# EAGLE library part ADR435ARZ (library faout)
Voltage Reference
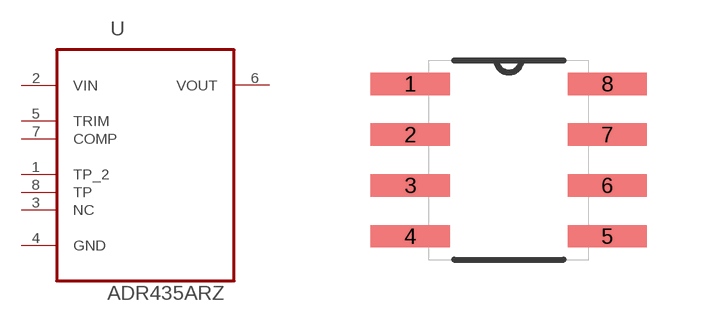
[diagram p7: symbol with the pads of SOIC127P600X175-8N; footprint SOIC127P600X175-8N]

Designator prefix U

## ADR435ARZ (MPN: ADR435ARZ; OC_FARNELL: 1438995; OC_NEWARK: 59K2824; PACKAGE: SOIC-8; SUPPLIER: Analog Devices)  [SOIC127P600X175-8N]
1  TP_2  nc
2  VIN  pwr
3  NC  nc
4  GND  pas
5  TRIM  in
6  VOUT  out
7  COMP  pas
8  TP  nc

## Footprint SOIC127P600X175-8N (pad centres in mm)
smd 1.981 x 0.559: 1 -2.464,1.905; 2 -2.464,0.635; 3 -2.464,-0.635; 4 -2.464,-1.905; 5 2.464,-1.905; 6 2.464,-0.635; 7 2.464,0.635; 8 2.464,1.905